# EAGLE library part DISCOVERY-F429ZI (library nucleo)
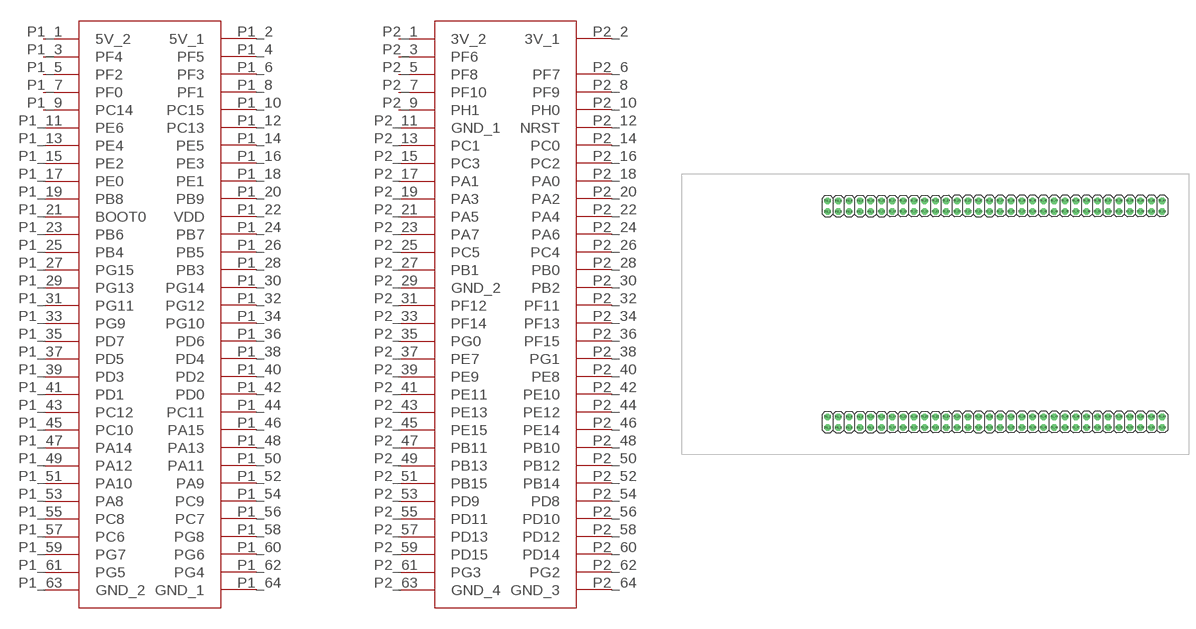
[diagram p5: symbol with the pads of MODULE_DISCOVERY-F429ZI; footprint MODULE_DISCOVERY-F429ZI]

Designator prefix IC; gates G$1=DISCOVERY_P1 G$2=DISCOVERY_P2

## DISCOVERY-F429ZI  [MODULE_DISCOVERY-F429ZI]
P1_1  G$1:5V_2
P1_2  G$1:5V_1
P1_3  G$1:PF4
P1_4  G$1:PF5
P1_5  G$1:PF2
P1_6  G$1:PF3
P1_7  G$1:PF0
P1_8  G$1:PF1
P1_9  G$1:PC14
P1_10  G$1:PC15
P1_11  G$1:PE6
P1_12  G$1:PC13
P1_13  G$1:PE4
P1_14  G$1:PE5
P1_15  G$1:PE2
P1_16  G$1:PE3
P1_17  G$1:PE0
P1_18  G$1:PE1
P1_19  G$1:PB8
P1_20  G$1:PB9
P1_21  G$1:BOOT0
P1_22  G$1:VDD
P1_23  G$1:PB6
P1_24  G$1:PB7
P1_25  G$1:PB4
P1_26  G$1:PB5
P1_27  G$1:PG15
P1_28  G$1:PB3
P1_29  G$1:PG13
P1_30  G$1:PG14
P1_31  G$1:PG11
P1_32  G$1:PG12
P1_33  G$1:PG9
P1_34  G$1:PG10
P1_35  G$1:PD7
P1_36  G$1:PD6
P1_37  G$1:PD5
P1_38  G$1:PD4
P1_39  G$1:PD3
P1_40  G$1:PD2
P1_41  G$1:PD1
P1_42  G$1:PD0
P1_43  G$1:PC12
P1_44  G$1:PC11
P1_45  G$1:PC10
P1_46  G$1:PA15
P1_47  G$1:PA14
P1_48  G$1:PA13
P1_49  G$1:PA12
P1_50  G$1:PA11
P1_51  G$1:PA10
P1_52  G$1:PA9
P1_53  G$1:PA8
P1_54  G$1:PC9
P1_55  G$1:PC8
P1_56  G$1:PC7
P1_57  G$1:PC6
P1_58  G$1:PG8
P1_59  G$1:PG7
P1_60  G$1:PG6
P1_61  G$1:PG5
P1_62  G$1:PG4
P1_63  G$1:GND_2
P1_64  G$1:GND_1
P2_1  G$2:3V_2
P2_2  G$2:3V_1
P2_3  G$2:PF6
P2_5  G$2:PF8
P2_6  G$2:PF7
P2_7  G$2:PF10
P2_8  G$2:PF9
P2_9  G$2:PH1
P2_10  G$2:PH0
P2_11  G$2:GND_1
P2_12  G$2:NRST
P2_13  G$2:PC1
P2_14  G$2:PC0
P2_15  G$2:PC3
P2_16  G$2:PC2
P2_17  G$2:PA1
P2_18  G$2:PA0
P2_19  G$2:PA3
P2_20  G$2:PA2
P2_21  G$2:PA5
P2_22  G$2:PA4
P2_23  G$2:PA7
P2_24  G$2:PA6
P2_25  G$2:PC5
P2_26  G$2:PC4
P2_27  G$2:PB1
P2_28  G$2:PB0
P2_29  G$2:GND_2
P2_30  G$2:PB2
P2_31  G$2:PF12
P2_32  G$2:PF11
P2_33  G$2:PF14
P2_34  G$2:PF13
P2_35  G$2:PG0
P2_36  G$2:PF15
P2_37  G$2:PE7
P2_38  G$2:PG1
P2_39  G$2:PE9
P2_40  G$2:PE8
P2_41  G$2:PE11
P2_42  G$2:PE10
P2_43  G$2:PE13
P2_44  G$2:PE12
P2_45  G$2:PE15
P2_46  G$2:PE14
P2_47  G$2:PB11
P2_48  G$2:PB10
P2_49  G$2:PB13
P2_50  G$2:PB12
P2_51  G$2:PB15
P2_52  G$2:PB14
P2_53  G$2:PD9
P2_54  G$2:PD8
P2_55  G$2:PD11
P2_56  G$2:PD10
P2_57  G$2:PD13
P2_58  G$2:PD12
P2_59  G$2:PD15
P2_60  G$2:PD14
P2_61  G$2:PG3
P2_62  G$2:PG2
P2_63  G$2:GND_4
P2_64  G$2:GND_3

## Footprint MODULE_DISCOVERY-F429ZI (pad centres in mm)
drill 1.016 octagon: P1_1 0,0; P1_2 0,2.54; P1_3 2.54,0; P1_4 2.54,2.54; P1_5 5.08,0; P1_6 5.08,2.54; P1_7 7.62,0; P1_8 7.62,2.54; P1_9 10.16,0; P1_10 10.16,2.54; P1_11 12.7,0; P1_12 12.7,2.54; P1_13 15.24,0; P1_14 15.24,2.54; P1_15 17.78,0; P1_16 17.78,2.54; P1_17 20.32,0; P1_18 20.32,2.54; P1_19 22.86,0; P1_20 22.86,2.54; P1_21 25.4,0; P1_22 25.4,2.54; P1_23 27.94,0; P1_24 27.94,2.54; P1_25 30.48,0; P1_26 30.48,2.54; P1_27 33.02,0; P1_28 33.02,2.54; P1_29 35.56,0; P1_30 35.56,2.54; P1_31 38.1,0; P1_32 38.1,2.54; P1_33 40.64,0; P1_34 40.64,2.54; P1_35 43.18,0; P1_36 43.18,2.54; P1_37 45.72,0; P1_38 45.72,2.54; P1_39 48.26,0; P1_40 48.26,2.54; P1_41 50.8,0; P1_42 50.8,2.54; P1_43 53.34,0; P1_44 53.34,2.54; P1_45 55.88,0; P1_46 55.88,2.54; P1_47 58.42,0; P1_48 58.42,2.54; P1_49 60.96,0; P1_50 60.96,2.54; P1_51 63.5,0; P1_52 63.5,2.54; P1_53 66.04,0; P1_54 66.04,2.54; P1_55 68.58,0; P1_56 68.58,2.54; P1_57 71.12,0; P1_58 71.12,2.54; P1_59 73.66,0; P1_60 73.66,2.54; P1_61 76.2,0; P1_62 76.2,2.54; P1_63 78.74,0; P1_64 78.74,2.54; P2_1 0,50.8; P2_2 0,53.34; P2_3 2.54,50.8; P2_4 2.54,53.34; P2_5 5.08,50.8; P2_6 5.08,53.34; P2_7 7.62,50.8; P2_8 7.62,53.34; P2_9 10.16,50.8; P2_10 10.16,53.34; P2_11 12.7,50.8; P2_12 12.7,53.34; P2_13 15.24,50.8; P2_14 15.24,53.34; P2_15 17.78,50.8; P2_16 17.78,53.34; P2_17 20.32,50.8; P2_18 20.32,53.34; P2_19 22.86,50.8; P2_20 22.86,53.34; P2_21 25.4,50.8; P2_22 25.4,53.34; P2_23 27.94,50.8; P2_24 27.94,53.34; P2_25 30.48,50.8; P2_26 30.48,53.34; P2_27 33.02,50.8; P2_28 33.02,53.34; P2_29 35.56,50.8; P2_30 35.56,53.34; P2_31 38.1,50.8; P2_32 38.1,53.34; P2_33 40.64,50.8; P2_34 40.64,53.34; P2_35 43.18,50.8; P2_36 43.18,53.34; P2_37 45.72,50.8; P2_38 45.72,53.34; P2_39 48.26,50.8; P2_40 48.26,53.34; P2_41 50.8,50.8; P2_42 50.8,53.34; P2_43 53.34,50.8; P2_44 53.34,53.34; P2_45 55.88,50.8; P2_46 55.88,53.34; P2_47 58.42,50.8; P2_48 58.42,53.34; P2_49 60.96,50.8; P2_50 60.96,53.34; P2_51 63.5,50.8; P2_52 63.5,53.34; P2_53 66.04,50.8; P2_54 66.04,53.34; P2_55 68.58,50.8; P2_56 68.58,53.34; P2_57 71.12,50.8; P2_58 71.12,53.34; P2_59 73.66,50.8; P2_60 73.66,53.34; P2_61 76.2,50.8; P2_62 76.2,53.34; P2_63 78.74,50.8; P2_64 78.74,53.34